# Altium schematic symbol library loom-dash-box.SchLib: 9 symbols
Pins are listed as number, name and electrical type; pins without a type are passive.

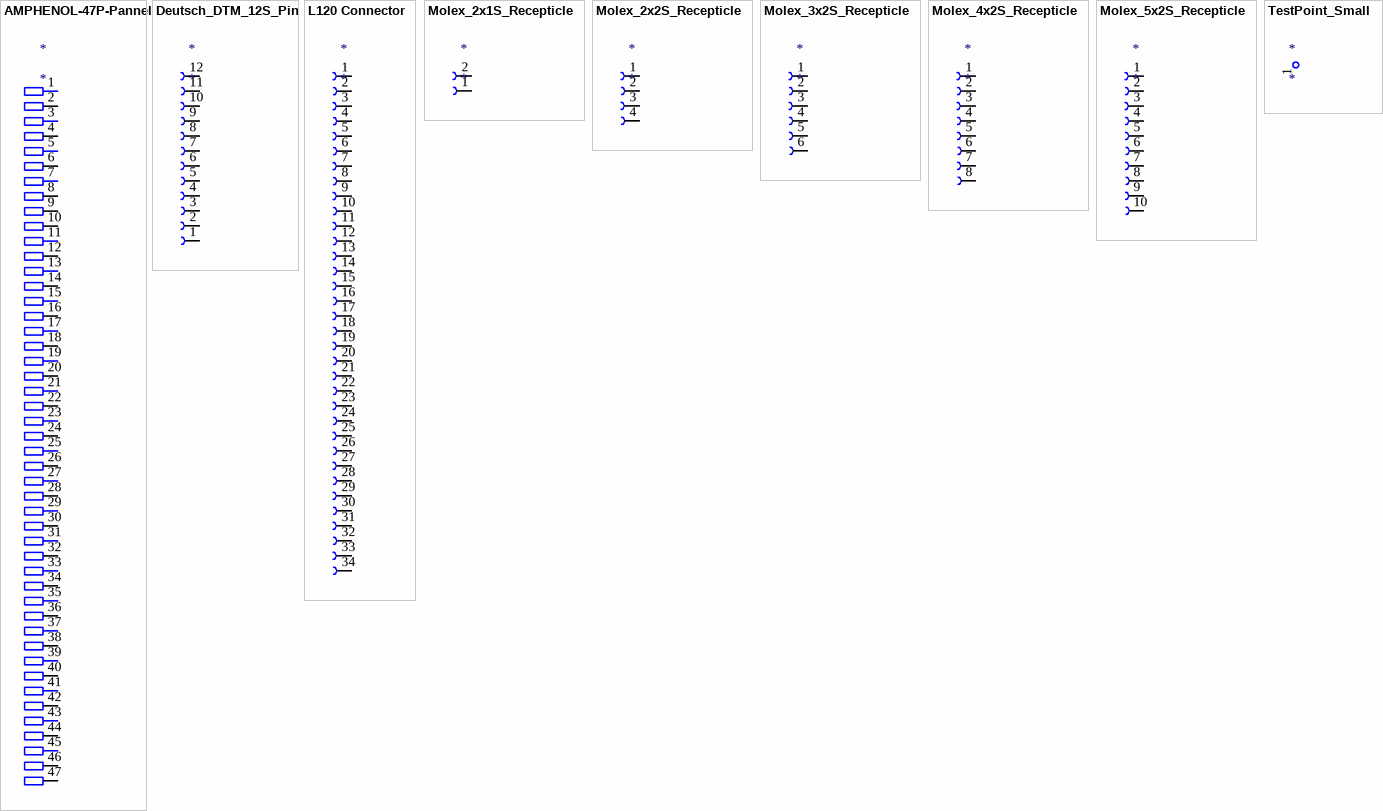
[diagram p0: symbols AMPHENOL-47P-Pannel to TestPoint_Small]

## AMPHENOL-47P-Pannel
designator *
pins: 1, 2, 3, 4, 5, 6, 7, 8, 9, 10, 11, 12, 13, 14, 15, 16, 17, 18, 19, 20, 21, 22, 23, 24, 25, 26, 27, 28, 29, 30, 31, 32, 33, 34, 35, 36, 37, 38, 39, 40, 41, 42, 43, 44, 45, 46, 47

## Deutsch_DTM_12S_Pin
designator *
pins: 1, 2, 3, 4, 5, 6, 7, 8, 9, 10, 11, 12

## L120 Connector
designator *
pins: 1, 2, 3, 4, 5, 6, 7, 8, 9, 10, 11, 12, 13, 14, 15, 16, 17, 18, 19, 20, 21, 22, 23, 24, 25, 26, 27, 28, 29, 30, 31, 32, 33, 34

## Molex_2x1S_Recepticle
designator *
pins: 1, 2

## Molex_2x2S_Recepticle
designator *
pins: 1, 2, 3, 4

## Molex_3x2S_Recepticle
designator *
pins: 1, 2, 3, 4, 5, 6

## Molex_4x2S_Recepticle
designator *
pins: 1, 2, 3, 4, 5, 6, 7, 8

## Molex_5x2S_Recepticle
designator *
pins: 1, 2, 3, 4, 5, 6, 7, 8, 9, 10

## TestPoint_Small
designator *
pins: 1